# Altium footprint library libreria.PcbLib: 3 footprints
Each footprint in its own frame and in the unit in brackets; x right, y up, seen from the top. Pads: shape width x height; smd on the part's side, far side on the other; paste and mask are expansions set on the pad; w line width, h text height; cw(c..) or ccw(c..) is an arc to the next point about the centre after c.
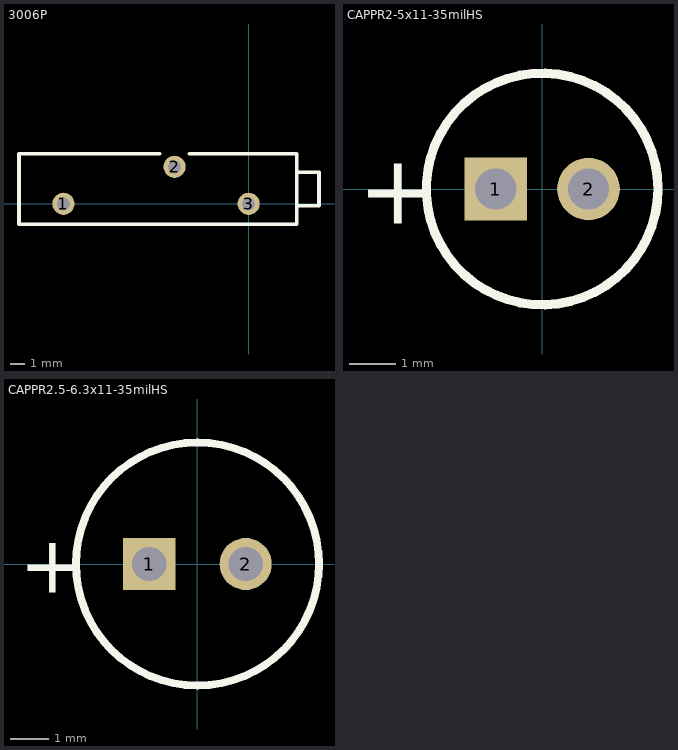
[diagram p0: the footprints below, top view; thin cyan lines are the x and y axes]

## 3006P [mil] "Rectangular Trimming Potentiometer 3006P"
pads (3):
  round 60 hole 35: 1(-500,0) 2(-200,100) 3(0,0)
Top Overlay:
  lines w10: -240,135 -620,135 -620,-55 130,-55 130,135 -160,135 ; 130,-5 190,-5 190,85 130,85

## CAPPR2-5x11-35milHS [mm] "Capacitor, Electrolytic, Radial; Body 5 x 11 mm (Dia.xH typ); Pin Spacing 2 mm (typ); 35mil Hole Size"
height 12
pads (2):
  rect 1.35x1.35 hole 0.889: 1(-1,0)
  round 1.35 hole 0.889: 2(1,0)
Top Overlay:
  circle w0.2: c0,0 r2.5
  text "+" at -3.975,-0.75 h1.5

## CAPPR2.5-6.3x11-35milHS [mm] "Capacitor, Electrolytic, Radial; Body 6.3 x 11 mm (Dia.xH typ); Pin Spacing 2.5 mm (typ)"
height 12
pads (2):
  rect 1.35x1.35 hole 0.889: 1(-1.25,0)
  round 1.35 hole 0.889: 2(1.25,0)
Top Overlay:
  circle w0.2: c0,0 r3.15
  text "+" at -4.625,-0.75 h1.5